# Altium footprint library TDK_VLS6045EX.PcbLib: 1 footprints
Each footprint in its own frame and in the unit in brackets; x right, y up, seen from the top. Pads: shape width x height; smd on the part's side, far side on the other; paste and mask are expansions set on the pad; w line width, h text height; cw(c..) or ccw(c..) is an arc to the next point about the centre after c.
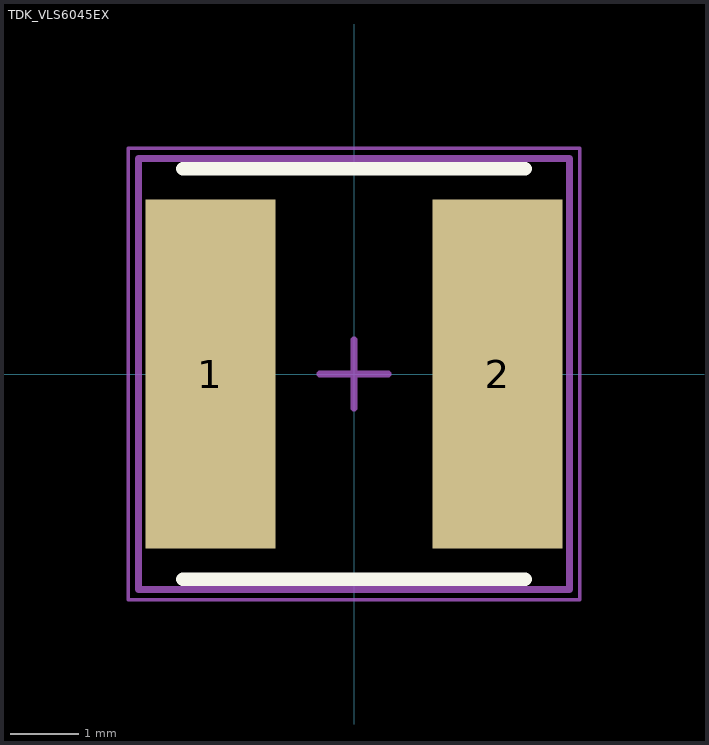
[diagram p0: the footprint, top view; thin cyan lines are the x and y axes]

## TDK_VLS6045EX [mm]
height 4.5
pads (2):
  rect 1.9x5.1 smd: 1(-2.1,0) 2(2.1,0)
Top Overlay:
  lines w0.2: -2.5,-3 2.5,-3 ; -2.5,3 2.5,3
Mechanical 13:
  lines w0.1: -3.15,-3.15 -3.15,3.15 3.15,3.15 3.15,-3.15 -3.15,-3.15
Mechanical 15:
  lines w0.05: -3.302,-3.302 3.302,-3.302 3.302,3.302 -3.302,3.302 -3.302,-3.302
  lines w0.1: -0.5,0 0.5,0 ; 0,-0.5 0,0.5
3D body: height 4.5, standoff 0, extent -3.15,-3.15 3.15,3.15